# EAGLE library part DRIVE.P (library Bergsonne Tiles)
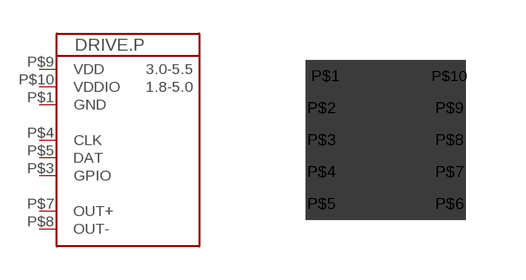
[diagram p8: symbol with the pads of T44-10; footprint T44-10]

Designator prefix -

## DRIVE.P  [T44-10]
P$1  GND
P$3  GPIO
P$4  CLK
P$5  DAT
P$7  OUT+
P$8  OUT-
P$9  VDD
P$10  VDDIO

## Footprint T44-10 (pad centres in mm)
smd 1 x 0.4: P$1 -1.5,1.6
smd 0.8 x 0.4: P$2 -1.6,0.8; P$3 -1.6,0; P$4 -1.6,-0.8; P$5 -1.6,-1.6; P$6 1.6,-1.6; P$7 1.6,-0.8; P$8 1.6,0; P$9 1.6,0.8; P$10 1.6,1.6